# Altium schematic symbol library CC0201KRX7R6BB222.SchLib: 1 symbol
Pins are listed as number, name and electrical type; pins without a type are passive.

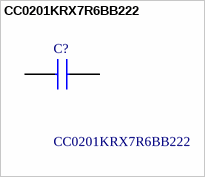
[diagram p0: symbol CC0201KRX7R6BB222]

## CC0201KRX7R6BB222
designator C?
2200 pF +/-10% 10V Ceramic Capacitor X7R 0201 (0603 Metric) , -55C ~ 125C; Manufacturer_Name: Yageo Group; Geometry.Height: 0.33mm; Mouser Part Number: 603-CC0201KR6BB222; Mouser Price/Stock: https://www.mouser.co.uk/ProductDetail/YAGEO/CC0201KRX7R6BB222?qs=tS%2FAHvPQ%2F57AvPsikpGQtQ%3D%3D; Manufacturer_Part_Number: CC0201KRX7R6BB222; Datasheet Link: https://yageogroup.com/component-documentation/download/specsheet/CC0201KRX7R6BB222?lang=en
footprint CAPC0603X33N
pins: 1, 2